# EAGLE library part FFC3B07-08-T_FFC3B07-08-T (library demon)
FPC 1.0mm Pitch, Side entry, Top contact, SMT, Height 2.5mm, Slide type Check availability <https://pricing.snapeda.com/parts/FFC3B07-08-T/Global%20Connector%20Technology/view-part?ref=eda>
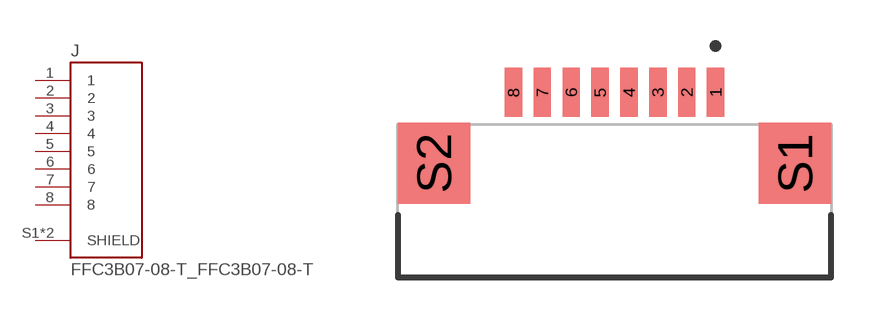
[diagram p1: symbol with the pads of FFC3B07-08-T_GCT_FFC3B07-08-T; footprint FFC3B07-08-T_GCT_FFC3B07-08-T]

Designator prefix J

## FFC3B07-08-T_FFC3B07-08-T (AVAILABILITY: In Stock; DESCRIPTION: 8 Position FFC, FPC Connector Contacts, Bottom 0.039 (1.00mm) Surface Mount, Right Angle; MF: Global Connector Technology; MP: FFC3B07-08-T; PACKAGE: None; PRICE: None; PURCHASE-URL: https://pricing.snapeda.com/search/part/FFC3B07-08-T/?ref=eda)  [FFC3B07-08-T_GCT_FFC3B07-08-T]
1  1  pas
2  2  pas
3  3  pas
4  4  pas
5  5  pas
6  6  pas
7  7  pas
8  8  pas
S1  SHIELD  pas
S2  SHIELD  pas

## Footprint FFC3B07-08-T_GCT_FFC3B07-08-T (pad centres in mm)
smd 0.6 x 1.7: 1 3.5,2.45; 2 2.5,2.45; 3 1.5,2.45; 4 0.5,2.45; 5 -0.5,2.45; 6 -1.5,2.45; 7 -2.5,2.45; 8 -3.5,2.45
smd 2.5 x 2.8: S1 6.25,0; S2 -6.25,0